# Altium schematic symbol library SCH - POWER - LINEAR VREG - TI LM317LPK.SchLib: 1 symbol
Pins are listed as number, name and electrical type; pins without a type are passive.

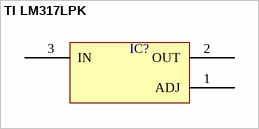
[diagram p0: symbol TI LM317LPK]

## TI LM317LPK
designator IC?  (value not drawn)
pins: 1 ADJ, 2 OUT, 3 IN